# Altium footprint library con-berg.PCBLIB: 4 footprints
Each footprint in its own frame and in the unit in brackets; x right, y up, seen from the top. Pads: shape width x height; smd on the part's side, far side on the other; paste and mask are expansions set on the pad; w line width, h text height; cw(c..) or ccw(c..) is an arc to the next point about the centre after c.
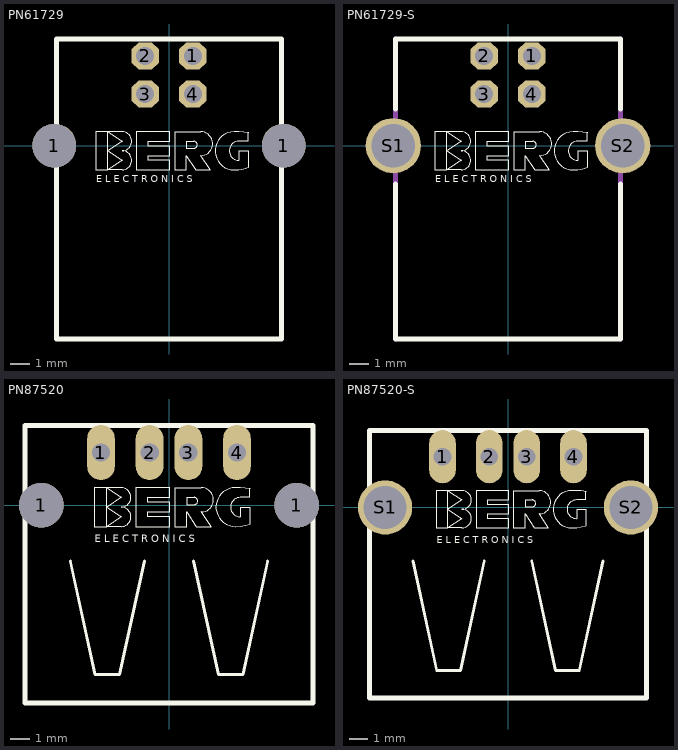
[diagram p0: the footprints below, top view; thin cyan lines are the x and y axes]

## PN61729 [mm]
pads (6):
  round 2.3 hole 2.3: 1(-6.02,0) 1(6.02,0)
  oct 1.425x1.425 hole 0.95: 1(1.25,4.71) 2(-1.25,4.71) 3(-1.25,2.71) 4(1.25,2.71)
Top Overlay:
  lines w0.051: 4.16,0.23 4.16,0.675 ; 4.165,0.23 ccw(c3.915,-1.645) 3.665,0.23 ccw(c3.665,-0.27) 3.665,-0.77 3.665,-0.27 4.165,-0.27 4.165,-1.145 cw(c3.405,1.105) 3.415,-1.27 cw(c3.415,-0.27) 3.415,0.73 cw(c3.534,-2.895) 4.175,0.675 ; -3.21,-1.27 -3.835,-1.27 -3.835,0.73 -3.21,0.73 ; -3.21,-1.27 -3.21,-0.27 ; -3.21,-1.27 -2.46,-0.77 -3.21,-0.27 ; -3.21,-1.27 -2.46,-1.27 ccw(c-2.46,-0.77) -2.46,-0.27 ccw(c-2.46,0.23) -2.46,0.73 -3.21,0.73 ; -3.21,-0.27 -3.21,0.73 ; -3.21,-0.27 -2.46,0.23 -3.21,0.73 ; -1.71,-1.27 -1.71,0.73 0.04,0.73 0.04,0.23 -1.085,0.23 -1.085,-0.02 0.04,-0.02 0.04,-0.52 -1.085,-0.52 -1.085,-0.77 0.04,-0.77 0.04,-1.27 -1.71,-1.27 ; 0.29,-1.27 0.29,0.73 1.665,0.73 cw(c1.665,0.105) 1.665,-0.52 2.165,-1.27 1.415,-1.27 0.915,-0.52 0.915,-1.27 0.29,-1.27 ; 0.915,-0.145 0.915,0.23 1.29,0.23 cw(c1.29,0.043) 1.29,-0.145 0.915,-0.145
  lines w0.254: -5.9,-10.15 -5.9,5.6 5.9,5.6 5.9,-10.15 -5.9,-10.15
  text "E L E C T R O N I C S" at -3.81,-2.04 h0.63

## PN61729-S [mm]
pads (6):
  oct 1.425x1.425 hole 0.95: 1(1.25,4.71) 2(-1.25,4.71) 3(-1.25,2.71) 4(1.25,2.71)
  round 2.9 hole 2.3: S1(-6.02,0) S2(6.02,0)
Top Overlay:
  lines w0.051: 4.16,0.23 4.16,0.675 ; 4.165,0.23 ccw(c3.915,-1.645) 3.665,0.23 ccw(c3.665,-0.27) 3.665,-0.77 3.665,-0.27 4.165,-0.27 4.165,-1.145 cw(c3.405,1.105) 3.415,-1.27 cw(c3.415,-0.27) 3.415,0.73 cw(c3.534,-2.896) 4.175,0.675 ; -3.21,-1.27 -3.835,-1.27 -3.835,0.73 -3.21,0.73 ; -3.21,-1.27 -3.21,-0.27 ; -3.21,-1.27 -2.46,-0.77 -3.21,-0.27 ; -3.21,-1.27 -2.46,-1.27 ccw(c-2.46,-0.77) -2.46,-0.27 ccw(c-2.46,0.23) -2.46,0.73 -3.21,0.73 ; -3.21,-0.27 -3.21,0.73 ; -3.21,-0.27 -2.46,0.23 -3.21,0.73 ; -1.71,-1.27 -1.71,0.73 0.04,0.73 0.04,0.23 -1.085,0.23 -1.085,-0.02 0.04,-0.02 0.04,-0.52 -1.085,-0.52 -1.085,-0.77 0.04,-0.77 0.04,-1.27 -1.71,-1.27 ; 0.29,-1.27 0.29,0.73 1.665,0.73 cw(c1.665,0.105) 1.665,-0.52 2.165,-1.27 1.415,-1.27 0.915,-0.52 0.915,-1.27 0.29,-1.27 ; 0.915,-0.145 0.915,0.23 1.29,0.23 cw(c1.29,0.043) 1.29,-0.145 0.915,-0.145
  lines w0.254: -5.9,-2.02 -5.9,-10.15 5.9,-10.15 5.9,-2.02 ; -5.9,1.915 -5.9,5.6 5.9,5.6 5.9,1.915
  text "E L E C T R O N I C S" at -3.81,-2.04 h0.63
Mechanical 16:
  lines w0.254: -5.9,-10.15 -5.9,5.6 ; 5.9,-10.15 5.9,5.6

## PN87520 [mm]
pads (6):
  round 2.3 hole 2.3: 1(-6.57,0) 1(6.57,0)
  oval 1.425x2.85 hole 0.95: 1(-3.5,2.71) 2(-1,2.71) 3(1,2.71) 4(3.5,2.71)
Top Overlay:
  lines w0.051: 4.16,0.4 4.16,0.845 ; 4.165,0.4 ccw(c3.915,-1.475) 3.665,0.4 ccw(c3.665,-0.1) 3.665,-0.6 3.665,-0.1 4.165,-0.1 4.165,-0.975 cw(c3.405,1.275) 3.415,-1.1 cw(c3.415,-0.1) 3.415,0.9 cw(c3.535,-2.725) 4.175,0.845 ; -3.21,-1.1 -3.835,-1.1 -3.835,0.9 -3.21,0.9 ; -3.21,-1.1 -3.21,-0.1 ; -3.21,-1.1 -2.46,-0.6 -3.21,-0.1 ; -3.21,-1.1 -2.46,-1.1 ccw(c-2.46,-0.6) -2.46,-0.1 ccw(c-2.46,0.4) -2.46,0.9 -3.21,0.9 ; -3.21,-0.1 -3.21,0.9 ; -3.21,-0.1 -2.46,0.4 -3.21,0.9 ; -1.71,-1.1 -1.71,0.9 0.04,0.9 0.04,0.4 -1.085,0.4 -1.085,0.15 0.04,0.15 0.04,-0.35 -1.085,-0.35 -1.085,-0.6 0.04,-0.6 0.04,-1.1 -1.71,-1.1 ; 0.29,-1.1 0.29,0.9 1.665,0.9 cw(c1.665,0.275) 1.665,-0.35 2.165,-1.1 1.415,-1.1 0.915,-0.35 0.915,-1.1 0.29,-1.1 ; 0.915,0.025 0.915,0.4 1.29,0.4 cw(c1.29,0.212) 1.29,0.025 0.915,0.025
  lines w0.152: -5.08,-2.87 -3.81,-8.72 -2.54,-8.72 -1.27,-2.87 ; 1.27,-2.87 2.54,-8.72 3.81,-8.72 5.08,-2.87
  lines w0.254: -7.4,-10.19 7.4,-10.19 7.4,4.11 -7.4,4.11 -7.4,-10.19
  text "E L E C T R O N I C S" at -3.81,-2.04 h0.63

## PN87520-S [mm]
pads (6):
  oval 1.425x2.85 hole 0.95: 1(-3.5,2.71) 2(-1,2.71) 3(1,2.71) 4(3.5,2.71)
  round 2.9 hole 2.3: S1(-6.57,0) S2(6.57,0)
Top Overlay:
  lines w0.051: 4.16,0.4 4.16,0.845 ; 4.165,0.4 ccw(c3.915,-1.475) 3.665,0.4 ccw(c3.665,-0.1) 3.665,-0.6 3.665,-0.1 4.165,-0.1 4.165,-0.975 cw(c3.405,1.275) 3.415,-1.1 cw(c3.415,-0.1) 3.415,0.9 cw(c3.535,-2.726) 4.175,0.845 ; -3.21,-1.1 -3.835,-1.1 -3.835,0.9 -3.21,0.9 ; -3.21,-1.1 -3.21,-0.1 ; -3.21,-1.1 -2.46,-0.6 -3.21,-0.1 ; -3.21,-1.1 -2.46,-1.1 ccw(c-2.46,-0.6) -2.46,-0.1 ccw(c-2.46,0.4) -2.46,0.9 -3.21,0.9 ; -3.21,-0.1 -3.21,0.9 ; -3.21,-0.1 -2.46,0.4 -3.21,0.9 ; -1.71,-1.1 -1.71,0.9 0.04,0.9 0.04,0.4 -1.085,0.4 -1.085,0.15 0.04,0.15 0.04,-0.35 -1.085,-0.35 -1.085,-0.6 0.04,-0.6 0.04,-1.1 -1.71,-1.1 ; 0.29,-1.1 0.29,0.9 1.665,0.9 cw(c1.665,0.275) 1.665,-0.35 2.165,-1.1 1.415,-1.1 0.915,-0.35 0.915,-1.1 0.29,-1.1 ; 0.915,0.025 0.915,0.4 1.29,0.4 cw(c1.29,0.212) 1.29,0.025 0.915,0.025
  lines w0.152: -5.08,-2.87 -3.81,-8.72 -2.54,-8.72 -1.27,-2.87 ; 1.27,-2.87 2.54,-8.72 3.81,-8.72 5.08,-2.87
  lines w0.254: -7.4,-10.19 7.4,-10.19 7.4,4.11 -7.4,4.11 -7.4,-10.19
  text "E L E C T R O N I C S" at -3.81,-2.04 h0.63